# EAGLE library part TPS543* (library NewSDR)
3A, Wide Input Range, Step-Down Swift Converter
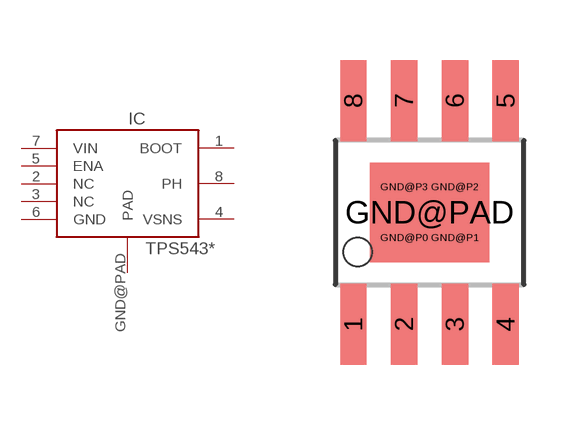
[diagram p51: symbol with the pads of SO8_POWERPAD; footprint SO8_POWERPAD]

Designator prefix IC

## TPS5430  [SO8_POWERPAD]
1  BOOT  pas
2  NC  nc
3  NC  nc
4  VSNS  in
5  ENA  in
6  GND  pwr
7  VIN  pwr
8  PH  pas
GND@PAD  PAD  pwr

## Footprint SO8_POWERPAD (pad centres in mm)
SO-8 With PowerPad
smd 0.66 x 2.032: 1 -1.905,-2.794; 2 -0.635,-2.794; 3 0.635,-2.794; 4 1.905,-2.794; 5 1.905,2.794; 6 0.635,2.794; 7 -0.635,2.794; 8 -1.905,2.794
drill 0.33 square: GND@P0 -0.635,-0.635; GND@P1 0.635,-0.635; GND@P2 0.635,0.635; GND@P3 -0.635,0.635
smd 2.997 x 2.489: GND@PAD 0,0